# Altium schematic symbol library RC0402.SchLib: 789 symbols (part 6 of 11)
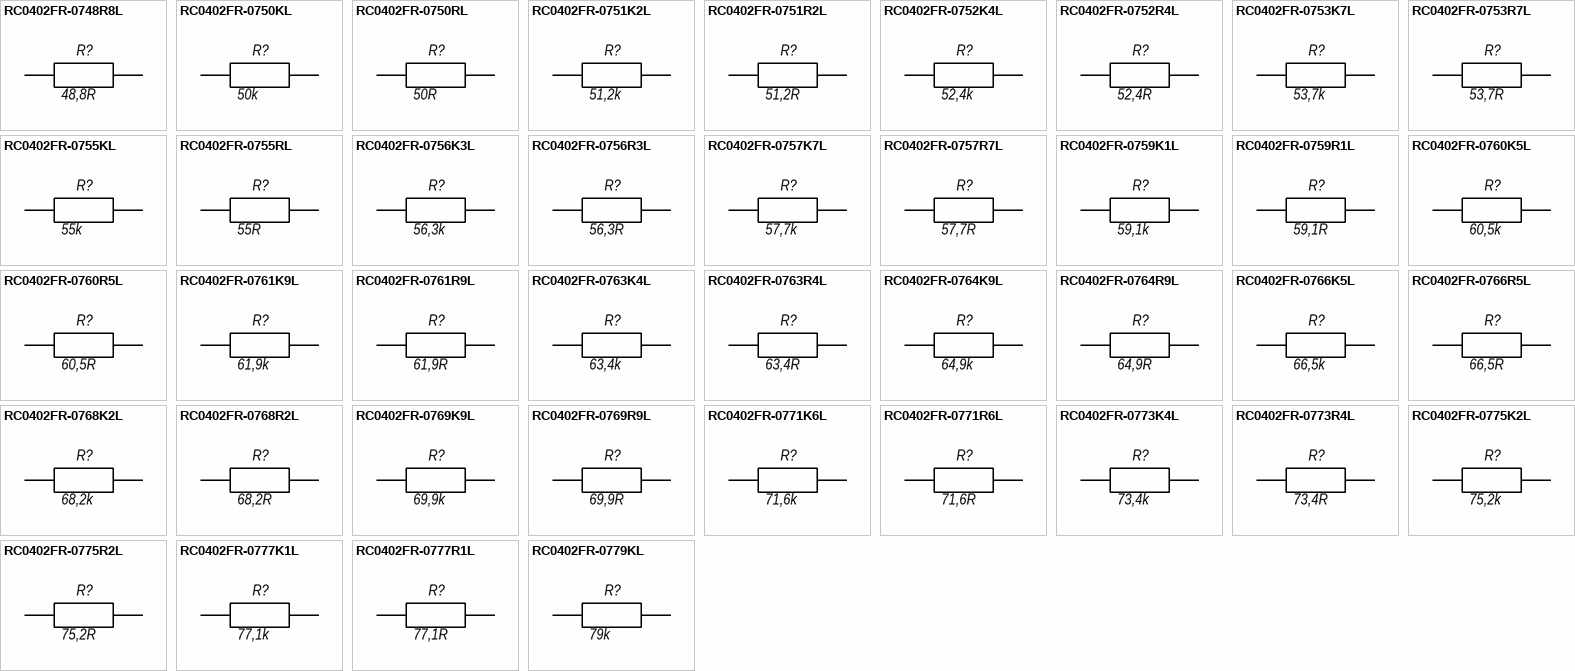
[diagram p24: symbols RC0402FR-0748R8L to RC0402FR-0779KL]

## RC0402FR-0768K2L
designator R?, comment 68,2k
RC0402FR-0768K2L 0402 68.2 kOhm ±1% 1/16W 0402 SMD -55C...+155C; Manufacturer: Yageo; BOM2: 68,2 кОм ±1%, 1/16 Вт, SMD 0402, RC0402FR-0768K2L; ValueBOM: RC0402FR-0768K2L   Yageo                            (68,2 кОм ±1%, 1/16 Вт, SMD 0402, RC0402FR-0768K2L); Value: 68,2k; Part Number: RC0402FR-0768K2L; Package: 0402; BOM1: 68.2 kOhm ±1% 1/16W 0402 SMD
footprint RESC_0402_1005L (Chip Resistor, Body 1.1x0.5mm, IPC High Density)
footprint RESC_0402_1005M (Chip Resistor, Body 1.1x0.5mm, IPC Low Density)
footprint RESC_0402_1005N (Chip Resistor, Body 1.1x0.5mm, IPC Medium Density)
pins: 1, 2

## RC0402FR-0768R2L
designator R?, comment 68,2R
RC0402FR-0768R2L 0402 68.2 Ohm ±1% 1/16W 0402 SMD -55C...+155C; Manufacturer: Yageo; BOM2: 68,2 Ом ±1%, 1/16 Вт, SMD 0402, RC0402FR-0768R2L; ValueBOM: RC0402FR-0768R2L   Yageo                            (68,2 Ом ±1%, 1/16 Вт, SMD 0402, RC0402FR-0768R2L); Value: 68,2R; Part Number: RC0402FR-0768R2L; Package: 0402; BOM1: 68.2 Ohm ±1% 1/16W 0402 SMD
footprint RESC_0402_1005L (Chip Resistor, Body 1.1x0.5mm, IPC High Density)
footprint RESC_0402_1005M (Chip Resistor, Body 1.1x0.5mm, IPC Low Density)
footprint RESC_0402_1005N (Chip Resistor, Body 1.1x0.5mm, IPC Medium Density)
pins: 1, 2

## RC0402FR-0769K9L
designator R?, comment 69,9k
RC0402FR-0769K9L 0402 69.9 kOhm ±1% 1/16W 0402 SMD -55C...+155C; Manufacturer: Yageo; BOM2: 69,9 кОм ±1%, 1/16 Вт, SMD 0402, RC0402FR-0769K9L; ValueBOM: RC0402FR-0769K9L   Yageo                            (69,9 кОм ±1%, 1/16 Вт, SMD 0402, RC0402FR-0769K9L); Value: 69,9k; Part Number: RC0402FR-0769K9L; Package: 0402; BOM1: 69.9 kOhm ±1% 1/16W 0402 SMD
footprint RESC_0402_1005L (Chip Resistor, Body 1.1x0.5mm, IPC High Density)
footprint RESC_0402_1005M (Chip Resistor, Body 1.1x0.5mm, IPC Low Density)
footprint RESC_0402_1005N (Chip Resistor, Body 1.1x0.5mm, IPC Medium Density)
pins: 1, 2

## RC0402FR-0769R9L
designator R?, comment 69,9R
RC0402FR-0769R9L 0402 69.9 Ohm ±1% 1/16W 0402 SMD -55C...+155C; Manufacturer: Yageo; BOM2: 69,9 Ом ±1%, 1/16 Вт, SMD 0402, RC0402FR-0769R9L; ValueBOM: RC0402FR-0769R9L   Yageo                            (69,9 Ом ±1%, 1/16 Вт, SMD 0402, RC0402FR-0769R9L); Value: 69,9R; Part Number: RC0402FR-0769R9L; Package: 0402; BOM1: 69.9 Ohm ±1% 1/16W 0402 SMD
footprint RESC_0402_1005L (Chip Resistor, Body 1.1x0.5mm, IPC High Density)
footprint RESC_0402_1005M (Chip Resistor, Body 1.1x0.5mm, IPC Low Density)
footprint RESC_0402_1005N (Chip Resistor, Body 1.1x0.5mm, IPC Medium Density)
pins: 1, 2

## RC0402FR-0771K6L
designator R?, comment 71,6k
RC0402FR-0771K6L 0402 71.6 kOhm ±1% 1/16W 0402 SMD -55C...+155C; Manufacturer: Yageo; BOM2: 71,6 кОм ±1%, 1/16 Вт, SMD 0402, RC0402FR-0771K6L; ValueBOM: RC0402FR-0771K6L   Yageo                            (71,6 кОм ±1%, 1/16 Вт, SMD 0402, RC0402FR-0771K6L); Value: 71,6k; Part Number: RC0402FR-0771K6L; Package: 0402; BOM1: 71.6 kOhm ±1% 1/16W 0402 SMD
footprint RESC_0402_1005L (Chip Resistor, Body 1.1x0.5mm, IPC High Density)
footprint RESC_0402_1005M (Chip Resistor, Body 1.1x0.5mm, IPC Low Density)
footprint RESC_0402_1005N (Chip Resistor, Body 1.1x0.5mm, IPC Medium Density)
pins: 1, 2

## RC0402FR-0771R6L
designator R?, comment 71,6R
RC0402FR-0771R6L 0402 71.6 Ohm ±1% 1/16W 0402 SMD -55C...+155C; Manufacturer: Yageo; BOM2: 71,6 Ом ±1%, 1/16 Вт, SMD 0402, RC0402FR-0771R6L; ValueBOM: RC0402FR-0771R6L   Yageo                            (71,6 Ом ±1%, 1/16 Вт, SMD 0402, RC0402FR-0771R6L); Value: 71,6R; Part Number: RC0402FR-0771R6L; Package: 0402; BOM1: 71.6 Ohm ±1% 1/16W 0402 SMD
footprint RESC_0402_1005L (Chip Resistor, Body 1.1x0.5mm, IPC High Density)
footprint RESC_0402_1005M (Chip Resistor, Body 1.1x0.5mm, IPC Low Density)
footprint RESC_0402_1005N (Chip Resistor, Body 1.1x0.5mm, IPC Medium Density)
pins: 1, 2

## RC0402FR-0773K4L
designator R?, comment 73,4k
RC0402FR-0773K4L 0402 73.4 kOhm ±1% 1/16W 0402 SMD -55C...+155C; Manufacturer: Yageo; BOM2: 73,4 кОм ±1%, 1/16 Вт, SMD 0402, RC0402FR-0773K4L; ValueBOM: RC0402FR-0773K4L   Yageo                            (73,4 кОм ±1%, 1/16 Вт, SMD 0402, RC0402FR-0773K4L); Value: 73,4k; Part Number: RC0402FR-0773K4L; Package: 0402; BOM1: 73.4 kOhm ±1% 1/16W 0402 SMD
footprint RESC_0402_1005L (Chip Resistor, Body 1.1x0.5mm, IPC High Density)
footprint RESC_0402_1005M (Chip Resistor, Body 1.1x0.5mm, IPC Low Density)
footprint RESC_0402_1005N (Chip Resistor, Body 1.1x0.5mm, IPC Medium Density)
pins: 1, 2

## RC0402FR-0773R4L
designator R?, comment 73,4R
RC0402FR-0773R4L 0402 73.4 Ohm ±1% 1/16W 0402 SMD -55C...+155C; Manufacturer: Yageo; BOM2: 73,4 Ом ±1%, 1/16 Вт, SMD 0402, RC0402FR-0773R4L; ValueBOM: RC0402FR-0773R4L   Yageo                            (73,4 Ом ±1%, 1/16 Вт, SMD 0402, RC0402FR-0773R4L); Value: 73,4R; Part Number: RC0402FR-0773R4L; Package: 0402; BOM1: 73.4 Ohm ±1% 1/16W 0402 SMD
footprint RESC_0402_1005L (Chip Resistor, Body 1.1x0.5mm, IPC High Density)
footprint RESC_0402_1005M (Chip Resistor, Body 1.1x0.5mm, IPC Low Density)
footprint RESC_0402_1005N (Chip Resistor, Body 1.1x0.5mm, IPC Medium Density)
pins: 1, 2

## RC0402FR-0775K2L
designator R?, comment 75,2k
RC0402FR-0775K2L 0402 75.2 kOhm ±1% 1/16W 0402 SMD -55C...+155C; Manufacturer: Yageo; BOM2: 75,2 кОм ±1%, 1/16 Вт, SMD 0402, RC0402FR-0775K2L; ValueBOM: RC0402FR-0775K2L   Yageo                            (75,2 кОм ±1%, 1/16 Вт, SMD 0402, RC0402FR-0775K2L); Value: 75,2k; Part Number: RC0402FR-0775K2L; Package: 0402; BOM1: 75.2 kOhm ±1% 1/16W 0402 SMD
footprint RESC_0402_1005L (Chip Resistor, Body 1.1x0.5mm, IPC High Density)
footprint RESC_0402_1005M (Chip Resistor, Body 1.1x0.5mm, IPC Low Density)
footprint RESC_0402_1005N (Chip Resistor, Body 1.1x0.5mm, IPC Medium Density)
pins: 1, 2

## RC0402FR-0775R2L
designator R?, comment 75,2R
RC0402FR-0775R2L 0402 75.2 Ohm ±1% 1/16W 0402 SMD -55C...+155C; Manufacturer: Yageo; BOM2: 75,2 Ом ±1%, 1/16 Вт, SMD 0402, RC0402FR-0775R2L; ValueBOM: RC0402FR-0775R2L   Yageo                            (75,2 Ом ±1%, 1/16 Вт, SMD 0402, RC0402FR-0775R2L); Value: 75,2R; Part Number: RC0402FR-0775R2L; Package: 0402; BOM1: 75.2 Ohm ±1% 1/16W 0402 SMD
footprint RESC_0402_1005L (Chip Resistor, Body 1.1x0.5mm, IPC High Density)
footprint RESC_0402_1005M (Chip Resistor, Body 1.1x0.5mm, IPC Low Density)
footprint RESC_0402_1005N (Chip Resistor, Body 1.1x0.5mm, IPC Medium Density)
pins: 1, 2

## RC0402FR-0777K1L
designator R?, comment 77,1k
RC0402FR-0777K1L 0402 77.1 kOhm ±1% 1/16W 0402 SMD -55C...+155C; Manufacturer: Yageo; BOM2: 77,1 кОм ±1%, 1/16 Вт, SMD 0402, RC0402FR-0777K1L; ValueBOM: RC0402FR-0777K1L   Yageo                            (77,1 кОм ±1%, 1/16 Вт, SMD 0402, RC0402FR-0777K1L); Value: 77,1k; Part Number: RC0402FR-0777K1L; Package: 0402; BOM1: 77.1 kOhm ±1% 1/16W 0402 SMD
footprint RESC_0402_1005L (Chip Resistor, Body 1.1x0.5mm, IPC High Density)
footprint RESC_0402_1005M (Chip Resistor, Body 1.1x0.5mm, IPC Low Density)
footprint RESC_0402_1005N (Chip Resistor, Body 1.1x0.5mm, IPC Medium Density)
pins: 1, 2

## RC0402FR-0777R1L
designator R?, comment 77,1R
RC0402FR-0777R1L 0402 77.1 Ohm ±1% 1/16W 0402 SMD -55C...+155C; Manufacturer: Yageo; BOM2: 77,1 Ом ±1%, 1/16 Вт, SMD 0402, RC0402FR-0777R1L; ValueBOM: RC0402FR-0777R1L   Yageo                            (77,1 Ом ±1%, 1/16 Вт, SMD 0402, RC0402FR-0777R1L); Value: 77,1R; Part Number: RC0402FR-0777R1L; Package: 0402; BOM1: 77.1 Ohm ±1% 1/16W 0402 SMD
footprint RESC_0402_1005L (Chip Resistor, Body 1.1x0.5mm, IPC High Density)
footprint RESC_0402_1005M (Chip Resistor, Body 1.1x0.5mm, IPC Low Density)
footprint RESC_0402_1005N (Chip Resistor, Body 1.1x0.5mm, IPC Medium Density)
pins: 1, 2

## RC0402FR-0779KL
designator R?, comment 79k
RC0402FR-0779KL 0402 79 kOhm ±1% 1/16W 0402 SMD -55C...+155C; Manufacturer: Yageo; BOM2: 79 кОм ±1%, 1/16 Вт, SMD 0402, RC0402FR-0779KL; ValueBOM: RC0402FR-0779KL   Yageo                            (79 кОм ±1%, 1/16 Вт, SMD 0402, RC0402FR-0779KL); Value: 79k; Part Number: RC0402FR-0779KL; Package: 0402; BOM1: 79 kOhm ±1% 1/16W 0402 SMD
footprint RESC_0402_1005L (Chip Resistor, Body 1.1x0.5mm, IPC High Density)
footprint RESC_0402_1005M (Chip Resistor, Body 1.1x0.5mm, IPC Low Density)
footprint RESC_0402_1005N (Chip Resistor, Body 1.1x0.5mm, IPC Medium Density)
pins: 1, 2

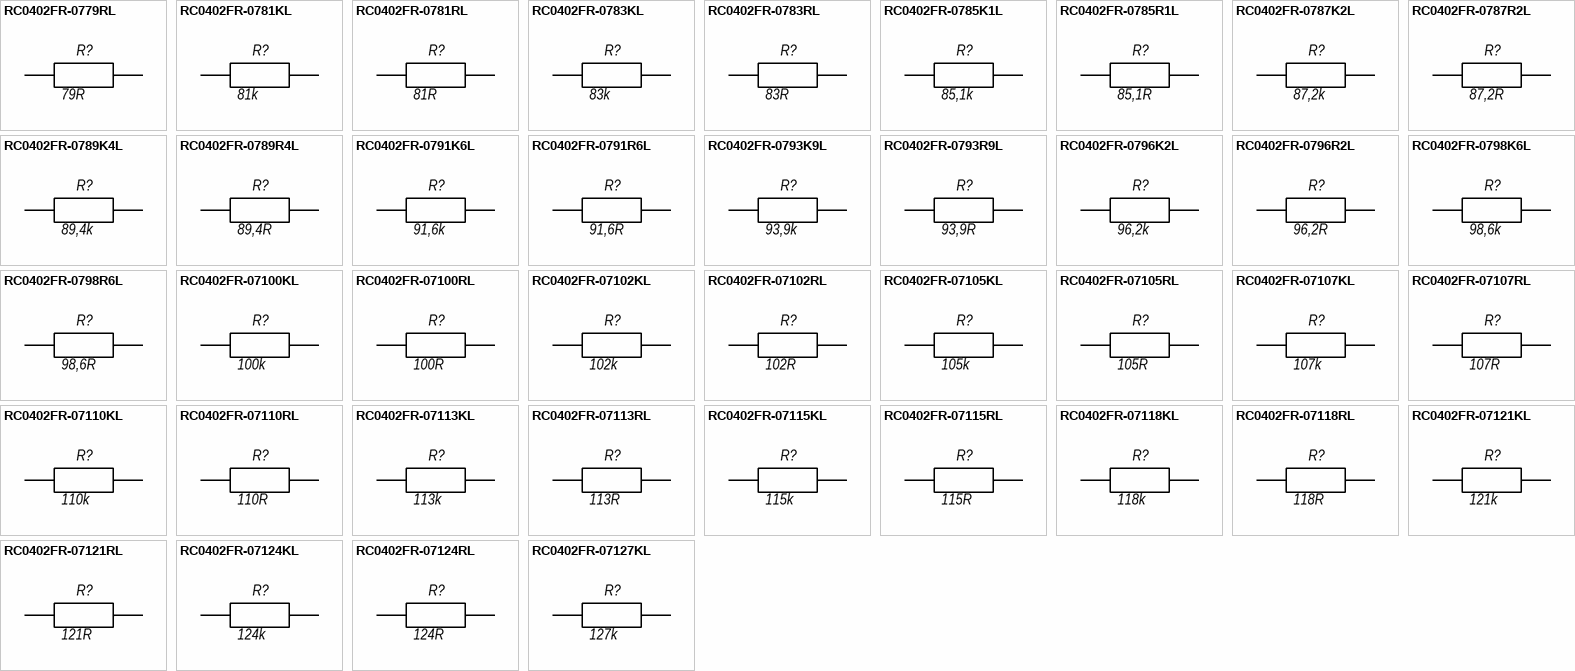
[diagram p10: symbols RC0402FR-0779RL to RC0402FR-07127KL]

## RC0402FR-0779RL
designator R?, comment 79R
RC0402FR-0779RL 0402 79 Ohm ±1% 1/16W 0402 SMD -55C...+155C; Manufacturer: Yageo; BOM2: 79 Ом ±1%, 1/16 Вт, SMD 0402, RC0402FR-0779RL; ValueBOM: RC0402FR-0779RL   Yageo                            (79 Ом ±1%, 1/16 Вт, SMD 0402, RC0402FR-0779RL); Value: 79R; Part Number: RC0402FR-0779RL; Package: 0402; BOM1: 79 Ohm ±1% 1/16W 0402 SMD
footprint RESC_0402_1005L (Chip Resistor, Body 1.1x0.5mm, IPC High Density)
footprint RESC_0402_1005M (Chip Resistor, Body 1.1x0.5mm, IPC Low Density)
footprint RESC_0402_1005N (Chip Resistor, Body 1.1x0.5mm, IPC Medium Density)
pins: 1, 2

## RC0402FR-0781KL
designator R?, comment 81k
RC0402FR-0781KL 0402 81 kOhm ±1% 1/16W 0402 SMD -55C...+155C; Manufacturer: Yageo; BOM2: 81 кОм ±1%, 1/16 Вт, SMD 0402, RC0402FR-0781KL; ValueBOM: RC0402FR-0781KL   Yageo                            (81 кОм ±1%, 1/16 Вт, SMD 0402, RC0402FR-0781KL); Value: 81k; Part Number: RC0402FR-0781KL; Package: 0402; BOM1: 81 kOhm ±1% 1/16W 0402 SMD
footprint RESC_0402_1005L (Chip Resistor, Body 1.1x0.5mm, IPC High Density)
footprint RESC_0402_1005M (Chip Resistor, Body 1.1x0.5mm, IPC Low Density)
footprint RESC_0402_1005N (Chip Resistor, Body 1.1x0.5mm, IPC Medium Density)
pins: 1, 2

## RC0402FR-0781RL
designator R?, comment 81R
RC0402FR-0781RL 0402 81 Ohm ±1% 1/16W 0402 SMD -55C...+155C; Manufacturer: Yageo; BOM2: 81 Ом ±1%, 1/16 Вт, SMD 0402, RC0402FR-0781RL; ValueBOM: RC0402FR-0781RL   Yageo                            (81 Ом ±1%, 1/16 Вт, SMD 0402, RC0402FR-0781RL); Value: 81R; Part Number: RC0402FR-0781RL; Package: 0402; BOM1: 81 Ohm ±1% 1/16W 0402 SMD
footprint RESC_0402_1005L (Chip Resistor, Body 1.1x0.5mm, IPC High Density)
footprint RESC_0402_1005M (Chip Resistor, Body 1.1x0.5mm, IPC Low Density)
footprint RESC_0402_1005N (Chip Resistor, Body 1.1x0.5mm, IPC Medium Density)
pins: 1, 2

## RC0402FR-0783KL
designator R?, comment 83k
RC0402FR-0783KL 0402 83 kOhm ±1% 1/16W 0402 SMD -55C...+155C; Manufacturer: Yageo; BOM2: 83 кОм ±1%, 1/16 Вт, SMD 0402, RC0402FR-0783KL; ValueBOM: RC0402FR-0783KL   Yageo                            (83 кОм ±1%, 1/16 Вт, SMD 0402, RC0402FR-0783KL); Value: 83k; Part Number: RC0402FR-0783KL; Package: 0402; BOM1: 83 kOhm ±1% 1/16W 0402 SMD
footprint RESC_0402_1005L (Chip Resistor, Body 1.1x0.5mm, IPC High Density)
footprint RESC_0402_1005M (Chip Resistor, Body 1.1x0.5mm, IPC Low Density)
footprint RESC_0402_1005N (Chip Resistor, Body 1.1x0.5mm, IPC Medium Density)
pins: 1, 2

## RC0402FR-0783RL
designator R?, comment 83R
RC0402FR-0783RL 0402 83 Ohm ±1% 1/16W 0402 SMD -55C...+155C; Manufacturer: Yageo; BOM2: 83 Ом ±1%, 1/16 Вт, SMD 0402, RC0402FR-0783RL; ValueBOM: RC0402FR-0783RL   Yageo                            (83 Ом ±1%, 1/16 Вт, SMD 0402, RC0402FR-0783RL); Value: 83R; Part Number: RC0402FR-0783RL; Package: 0402; BOM1: 83 Ohm ±1% 1/16W 0402 SMD
footprint RESC_0402_1005L (Chip Resistor, Body 1.1x0.5mm, IPC High Density)
footprint RESC_0402_1005M (Chip Resistor, Body 1.1x0.5mm, IPC Low Density)
footprint RESC_0402_1005N (Chip Resistor, Body 1.1x0.5mm, IPC Medium Density)
pins: 1, 2

## RC0402FR-0785K1L
designator R?, comment 85,1k
RC0402FR-0785K1L 0402 85.1 kOhm ±1% 1/16W 0402 SMD -55C...+155C; Manufacturer: Yageo; BOM2: 85,1 кОм ±1%, 1/16 Вт, SMD 0402, RC0402FR-0785K1L; ValueBOM: RC0402FR-0785K1L   Yageo                            (85,1 кОм ±1%, 1/16 Вт, SMD 0402, RC0402FR-0785K1L); Value: 85,1k; Part Number: RC0402FR-0785K1L; Package: 0402; BOM1: 85.1 kOhm ±1% 1/16W 0402 SMD
footprint RESC_0402_1005L (Chip Resistor, Body 1.1x0.5mm, IPC High Density)
footprint RESC_0402_1005M (Chip Resistor, Body 1.1x0.5mm, IPC Low Density)
footprint RESC_0402_1005N (Chip Resistor, Body 1.1x0.5mm, IPC Medium Density)
pins: 1, 2

## RC0402FR-0785R1L
designator R?, comment 85,1R
RC0402FR-0785R1L 0402 85.1 Ohm ±1% 1/16W 0402 SMD -55C...+155C; Manufacturer: Yageo; BOM2: 85,1 Ом ±1%, 1/16 Вт, SMD 0402, RC0402FR-0785R1L; ValueBOM: RC0402FR-0785R1L   Yageo                            (85,1 Ом ±1%, 1/16 Вт, SMD 0402, RC0402FR-0785R1L); Value: 85,1R; Part Number: RC0402FR-0785R1L; Package: 0402; BOM1: 85.1 Ohm ±1% 1/16W 0402 SMD
footprint RESC_0402_1005L (Chip Resistor, Body 1.1x0.5mm, IPC High Density)
footprint RESC_0402_1005M (Chip Resistor, Body 1.1x0.5mm, IPC Low Density)
footprint RESC_0402_1005N (Chip Resistor, Body 1.1x0.5mm, IPC Medium Density)
pins: 1, 2

## RC0402FR-0787K2L
designator R?, comment 87,2k
RC0402FR-0787K2L 0402 87.2 kOhm ±1% 1/16W 0402 SMD -55C...+155C; Manufacturer: Yageo; BOM2: 87,2 кОм ±1%, 1/16 Вт, SMD 0402, RC0402FR-0787K2L; ValueBOM: RC0402FR-0787K2L   Yageo                            (87,2 кОм ±1%, 1/16 Вт, SMD 0402, RC0402FR-0787K2L); Value: 87,2k; Part Number: RC0402FR-0787K2L; Package: 0402; BOM1: 87.2 kOhm ±1% 1/16W 0402 SMD
footprint RESC_0402_1005L (Chip Resistor, Body 1.1x0.5mm, IPC High Density)
footprint RESC_0402_1005M (Chip Resistor, Body 1.1x0.5mm, IPC Low Density)
footprint RESC_0402_1005N (Chip Resistor, Body 1.1x0.5mm, IPC Medium Density)
pins: 1, 2

## RC0402FR-0787R2L
designator R?, comment 87,2R
RC0402FR-0787R2L 0402 87.2 Ohm ±1% 1/16W 0402 SMD -55C...+155C; Manufacturer: Yageo; BOM2: 87,2 Ом ±1%, 1/16 Вт, SMD 0402, RC0402FR-0787R2L; ValueBOM: RC0402FR-0787R2L   Yageo                            (87,2 Ом ±1%, 1/16 Вт, SMD 0402, RC0402FR-0787R2L); Value: 87,2R; Part Number: RC0402FR-0787R2L; Package: 0402; BOM1: 87.2 Ohm ±1% 1/16W 0402 SMD
footprint RESC_0402_1005L (Chip Resistor, Body 1.1x0.5mm, IPC High Density)
footprint RESC_0402_1005M (Chip Resistor, Body 1.1x0.5mm, IPC Low Density)
footprint RESC_0402_1005N (Chip Resistor, Body 1.1x0.5mm, IPC Medium Density)
pins: 1, 2

## RC0402FR-0789K4L
designator R?, comment 89,4k
RC0402FR-0789K4L 0402 89.4 kOhm ±1% 1/16W 0402 SMD -55C...+155C; Manufacturer: Yageo; BOM2: 89,4 кОм ±1%, 1/16 Вт, SMD 0402, RC0402FR-0789K4L; ValueBOM: RC0402FR-0789K4L   Yageo                            (89,4 кОм ±1%, 1/16 Вт, SMD 0402, RC0402FR-0789K4L); Value: 89,4k; Part Number: RC0402FR-0789K4L; Package: 0402; BOM1: 89.4 kOhm ±1% 1/16W 0402 SMD
footprint RESC_0402_1005L (Chip Resistor, Body 1.1x0.5mm, IPC High Density)
footprint RESC_0402_1005M (Chip Resistor, Body 1.1x0.5mm, IPC Low Density)
footprint RESC_0402_1005N (Chip Resistor, Body 1.1x0.5mm, IPC Medium Density)
pins: 1, 2

## RC0402FR-0789R4L
designator R?, comment 89,4R
RC0402FR-0789R4L 0402 89.4 Ohm ±1% 1/16W 0402 SMD -55C...+155C; Manufacturer: Yageo; BOM2: 89,4 Ом ±1%, 1/16 Вт, SMD 0402, RC0402FR-0789R4L; ValueBOM: RC0402FR-0789R4L   Yageo                            (89,4 Ом ±1%, 1/16 Вт, SMD 0402, RC0402FR-0789R4L); Value: 89,4R; Part Number: RC0402FR-0789R4L; Package: 0402; BOM1: 89.4 Ohm ±1% 1/16W 0402 SMD
footprint RESC_0402_1005L (Chip Resistor, Body 1.1x0.5mm, IPC High Density)
footprint RESC_0402_1005M (Chip Resistor, Body 1.1x0.5mm, IPC Low Density)
footprint RESC_0402_1005N (Chip Resistor, Body 1.1x0.5mm, IPC Medium Density)
pins: 1, 2

## RC0402FR-0791K6L
designator R?, comment 91,6k
RC0402FR-0791K6L 0402 91.6 kOhm ±1% 1/16W 0402 SMD -55C...+155C; Manufacturer: Yageo; BOM2: 91,6 кОм ±1%, 1/16 Вт, SMD 0402, RC0402FR-0791K6L; ValueBOM: RC0402FR-0791K6L   Yageo                            (91,6 кОм ±1%, 1/16 Вт, SMD 0402, RC0402FR-0791K6L); Value: 91,6k; Part Number: RC0402FR-0791K6L; Package: 0402; BOM1: 91.6 kOhm ±1% 1/16W 0402 SMD
footprint RESC_0402_1005L (Chip Resistor, Body 1.1x0.5mm, IPC High Density)
footprint RESC_0402_1005M (Chip Resistor, Body 1.1x0.5mm, IPC Low Density)
footprint RESC_0402_1005N (Chip Resistor, Body 1.1x0.5mm, IPC Medium Density)
pins: 1, 2

## RC0402FR-0791R6L
designator R?, comment 91,6R
RC0402FR-0791R6L 0402 91.6 Ohm ±1% 1/16W 0402 SMD -55C...+155C; Manufacturer: Yageo; BOM2: 91,6 Ом ±1%, 1/16 Вт, SMD 0402, RC0402FR-0791R6L; ValueBOM: RC0402FR-0791R6L   Yageo                            (91,6 Ом ±1%, 1/16 Вт, SMD 0402, RC0402FR-0791R6L); Value: 91,6R; Part Number: RC0402FR-0791R6L; Package: 0402; BOM1: 91.6 Ohm ±1% 1/16W 0402 SMD
footprint RESC_0402_1005L (Chip Resistor, Body 1.1x0.5mm, IPC High Density)
footprint RESC_0402_1005M (Chip Resistor, Body 1.1x0.5mm, IPC Low Density)
footprint RESC_0402_1005N (Chip Resistor, Body 1.1x0.5mm, IPC Medium Density)
pins: 1, 2

## RC0402FR-0793K9L
designator R?, comment 93,9k
RC0402FR-0793K9L 0402 93.9 kOhm ±1% 1/16W 0402 SMD -55C...+155C; Manufacturer: Yageo; BOM2: 93,9 кОм ±1%, 1/16 Вт, SMD 0402, RC0402FR-0793K9L; ValueBOM: RC0402FR-0793K9L   Yageo                            (93,9 кОм ±1%, 1/16 Вт, SMD 0402, RC0402FR-0793K9L); Value: 93,9k; Part Number: RC0402FR-0793K9L; Package: 0402; BOM1: 93.9 kOhm ±1% 1/16W 0402 SMD
footprint RESC_0402_1005L (Chip Resistor, Body 1.1x0.5mm, IPC High Density)
footprint RESC_0402_1005M (Chip Resistor, Body 1.1x0.5mm, IPC Low Density)
footprint RESC_0402_1005N (Chip Resistor, Body 1.1x0.5mm, IPC Medium Density)
pins: 1, 2

## RC0402FR-0793R9L
designator R?, comment 93,9R
RC0402FR-0793R9L 0402 93.9 Ohm ±1% 1/16W 0402 SMD -55C...+155C; Manufacturer: Yageo; BOM2: 93,9 Ом ±1%, 1/16 Вт, SMD 0402, RC0402FR-0793R9L; ValueBOM: RC0402FR-0793R9L   Yageo                            (93,9 Ом ±1%, 1/16 Вт, SMD 0402, RC0402FR-0793R9L); Value: 93,9R; Part Number: RC0402FR-0793R9L; Package: 0402; BOM1: 93.9 Ohm ±1% 1/16W 0402 SMD
footprint RESC_0402_1005L (Chip Resistor, Body 1.1x0.5mm, IPC High Density)
footprint RESC_0402_1005M (Chip Resistor, Body 1.1x0.5mm, IPC Low Density)
footprint RESC_0402_1005N (Chip Resistor, Body 1.1x0.5mm, IPC Medium Density)
pins: 1, 2

## RC0402FR-0796K2L
designator R?, comment 96,2k
RC0402FR-0796K2L 0402 96.2 kOhm ±1% 1/16W 0402 SMD -55C...+155C; Manufacturer: Yageo; BOM2: 96,2 кОм ±1%, 1/16 Вт, SMD 0402, RC0402FR-0796K2L; ValueBOM: RC0402FR-0796K2L   Yageo                            (96,2 кОм ±1%, 1/16 Вт, SMD 0402, RC0402FR-0796K2L); Value: 96,2k; Part Number: RC0402FR-0796K2L; Package: 0402; BOM1: 96.2 kOhm ±1% 1/16W 0402 SMD
footprint RESC_0402_1005L (Chip Resistor, Body 1.1x0.5mm, IPC High Density)
footprint RESC_0402_1005M (Chip Resistor, Body 1.1x0.5mm, IPC Low Density)
footprint RESC_0402_1005N (Chip Resistor, Body 1.1x0.5mm, IPC Medium Density)
pins: 1, 2

## RC0402FR-0796R2L
designator R?, comment 96,2R
RC0402FR-0796R2L 0402 96.2 Ohm ±1% 1/16W 0402 SMD -55C...+155C; Manufacturer: Yageo; BOM2: 96,2 Ом ±1%, 1/16 Вт, SMD 0402, RC0402FR-0796R2L; ValueBOM: RC0402FR-0796R2L   Yageo                            (96,2 Ом ±1%, 1/16 Вт, SMD 0402, RC0402FR-0796R2L); Value: 96,2R; Part Number: RC0402FR-0796R2L; Package: 0402; BOM1: 96.2 Ohm ±1% 1/16W 0402 SMD
footprint RESC_0402_1005L (Chip Resistor, Body 1.1x0.5mm, IPC High Density)
footprint RESC_0402_1005M (Chip Resistor, Body 1.1x0.5mm, IPC Low Density)
footprint RESC_0402_1005N (Chip Resistor, Body 1.1x0.5mm, IPC Medium Density)
pins: 1, 2

## RC0402FR-0798K6L
designator R?, comment 98,6k
RC0402FR-0798K6L 0402 98.6 kOhm ±1% 1/16W 0402 SMD -55C...+155C; Manufacturer: Yageo; BOM2: 98,6 кОм ±1%, 1/16 Вт, SMD 0402, RC0402FR-0798K6L; ValueBOM: RC0402FR-0798K6L   Yageo                            (98,6 кОм ±1%, 1/16 Вт, SMD 0402, RC0402FR-0798K6L); Value: 98,6k; Part Number: RC0402FR-0798K6L; Package: 0402; BOM1: 98.6 kOhm ±1% 1/16W 0402 SMD
footprint RESC_0402_1005L (Chip Resistor, Body 1.1x0.5mm, IPC High Density)
footprint RESC_0402_1005M (Chip Resistor, Body 1.1x0.5mm, IPC Low Density)
footprint RESC_0402_1005N (Chip Resistor, Body 1.1x0.5mm, IPC Medium Density)
pins: 1, 2

## RC0402FR-0798R6L
designator R?, comment 98,6R
RC0402FR-0798R6L 0402 98.6 Ohm ±1% 1/16W 0402 SMD -55C...+155C; Manufacturer: Yageo; BOM2: 98,6 Ом ±1%, 1/16 Вт, SMD 0402, RC0402FR-0798R6L; ValueBOM: RC0402FR-0798R6L   Yageo                            (98,6 Ом ±1%, 1/16 Вт, SMD 0402, RC0402FR-0798R6L); Value: 98,6R; Part Number: RC0402FR-0798R6L; Package: 0402; BOM1: 98.6 Ohm ±1% 1/16W 0402 SMD
footprint RESC_0402_1005L (Chip Resistor, Body 1.1x0.5mm, IPC High Density)
footprint RESC_0402_1005M (Chip Resistor, Body 1.1x0.5mm, IPC Low Density)
footprint RESC_0402_1005N (Chip Resistor, Body 1.1x0.5mm, IPC Medium Density)
pins: 1, 2

## RC0402FR-07100KL
designator R?, comment 100k
RC0402FR-07100KL 0402 100 kOhm ±1% 1/16W 0402 SMD -55C...+155C; Manufacturer: Yageo; BOM2: 100 кОм ±1%, 1/16 Вт, SMD 0402, RC0402FR-07100KL; ValueBOM: RC0402FR-07100KL   Yageo                            (100 кОм ±1%, 1/16 Вт, SMD 0402, RC0402FR-07100KL); Value: 100k; Part Number: RC0402FR-07100KL; Package: 0402; BOM1: 100 kOhm ±1% 1/16W 0402 SMD
footprint RESC_0402_1005L (Chip Resistor, Body 1.1x0.5mm, IPC High Density)
footprint RESC_0402_1005M (Chip Resistor, Body 1.1x0.5mm, IPC Low Density)
footprint RESC_0402_1005N (Chip Resistor, Body 1.1x0.5mm, IPC Medium Density)
pins: 1, 2

## RC0402FR-07100RL
designator R?, comment 100R
RC0402FR-07100RL 0402 100 Ohm ±1% 1/16W 0402 SMD -55C...+155C; Manufacturer: Yageo; BOM2: 100 Ом ±1%, 1/16 Вт, SMD 0402, RC0402FR-07100RL; ValueBOM: RC0402FR-07100RL   Yageo                            (100 Ом ±1%, 1/16 Вт, SMD 0402, RC0402FR-07100RL); Value: 100R; Part Number: RC0402FR-07100RL; Package: 0402; BOM1: 100 Ohm ±1% 1/16W 0402 SMD
footprint RESC_0402_1005L (Chip Resistor, Body 1.1x0.5mm, IPC High Density)
footprint RESC_0402_1005M (Chip Resistor, Body 1.1x0.5mm, IPC Low Density)
footprint RESC_0402_1005N (Chip Resistor, Body 1.1x0.5mm, IPC Medium Density)
pins: 1, 2

## RC0402FR-07102KL
designator R?, comment 102k
RC0402FR-07102KL 0402 102 kOhm ±1% 1/16W 0402 SMD -55C...+155C; Manufacturer: Yageo; BOM2: 102 кОм ±1%, 1/16 Вт, SMD 0402, RC0402FR-07102KL; ValueBOM: RC0402FR-07102KL   Yageo                            (102 кОм ±1%, 1/16 Вт, SMD 0402, RC0402FR-07102KL); Value: 102k; Part Number: RC0402FR-07102KL; Package: 0402; BOM1: 102 kOhm ±1% 1/16W 0402 SMD
footprint RESC_0402_1005L (Chip Resistor, Body 1.1x0.5mm, IPC High Density)
footprint RESC_0402_1005M (Chip Resistor, Body 1.1x0.5mm, IPC Low Density)
footprint RESC_0402_1005N (Chip Resistor, Body 1.1x0.5mm, IPC Medium Density)
pins: 1, 2

## RC0402FR-07102RL
designator R?, comment 102R
RC0402FR-07102RL 0402 102 Ohm ±1% 1/16W 0402 SMD -55C...+155C; Manufacturer: Yageo; BOM2: 102 Ом ±1%, 1/16 Вт, SMD 0402, RC0402FR-07102RL; ValueBOM: RC0402FR-07102RL   Yageo                            (102 Ом ±1%, 1/16 Вт, SMD 0402, RC0402FR-07102RL); Value: 102R; Part Number: RC0402FR-07102RL; Package: 0402; BOM1: 102 Ohm ±1% 1/16W 0402 SMD
footprint RESC_0402_1005L (Chip Resistor, Body 1.1x0.5mm, IPC High Density)
footprint RESC_0402_1005M (Chip Resistor, Body 1.1x0.5mm, IPC Low Density)
footprint RESC_0402_1005N (Chip Resistor, Body 1.1x0.5mm, IPC Medium Density)
pins: 1, 2

## RC0402FR-07105KL
designator R?, comment 105k
RC0402FR-07105KL 0402 105 kOhm ±1% 1/16W 0402 SMD -55C...+155C; Manufacturer: Yageo; BOM2: 105 кОм ±1%, 1/16 Вт, SMD 0402, RC0402FR-07105KL; ValueBOM: RC0402FR-07105KL   Yageo                            (105 кОм ±1%, 1/16 Вт, SMD 0402, RC0402FR-07105KL); Value: 105k; Part Number: RC0402FR-07105KL; Package: 0402; BOM1: 105 kOhm ±1% 1/16W 0402 SMD
footprint RESC_0402_1005L (Chip Resistor, Body 1.1x0.5mm, IPC High Density)
footprint RESC_0402_1005M (Chip Resistor, Body 1.1x0.5mm, IPC Low Density)
footprint RESC_0402_1005N (Chip Resistor, Body 1.1x0.5mm, IPC Medium Density)
pins: 1, 2

## RC0402FR-07105RL
designator R?, comment 105R
RC0402FR-07105RL 0402 105 Ohm ±1% 1/16W 0402 SMD -55C...+155C; Manufacturer: Yageo; BOM2: 105 Ом ±1%, 1/16 Вт, SMD 0402, RC0402FR-07105RL; ValueBOM: RC0402FR-07105RL   Yageo                            (105 Ом ±1%, 1/16 Вт, SMD 0402, RC0402FR-07105RL); Value: 105R; Part Number: RC0402FR-07105RL; Package: 0402; BOM1: 105 Ohm ±1% 1/16W 0402 SMD
footprint RESC_0402_1005L (Chip Resistor, Body 1.1x0.5mm, IPC High Density)
footprint RESC_0402_1005M (Chip Resistor, Body 1.1x0.5mm, IPC Low Density)
footprint RESC_0402_1005N (Chip Resistor, Body 1.1x0.5mm, IPC Medium Density)
pins: 1, 2

## RC0402FR-07107KL
designator R?, comment 107k
RC0402FR-07107KL 0402 107 kOhm ±1% 1/16W 0402 SMD -55C...+155C; Manufacturer: Yageo; BOM2: 107 кОм ±1%, 1/16 Вт, SMD 0402, RC0402FR-07107KL; ValueBOM: RC0402FR-07107KL   Yageo                            (107 кОм ±1%, 1/16 Вт, SMD 0402, RC0402FR-07107KL); Value: 107k; Part Number: RC0402FR-07107KL; Package: 0402; BOM1: 107 kOhm ±1% 1/16W 0402 SMD
footprint RESC_0402_1005L (Chip Resistor, Body 1.1x0.5mm, IPC High Density)
footprint RESC_0402_1005M (Chip Resistor, Body 1.1x0.5mm, IPC Low Density)
footprint RESC_0402_1005N (Chip Resistor, Body 1.1x0.5mm, IPC Medium Density)
pins: 1, 2

## RC0402FR-07107RL
designator R?, comment 107R
RC0402FR-07107RL 0402 107 Ohm ±1% 1/16W 0402 SMD -55C...+155C; Manufacturer: Yageo; BOM2: 107 Ом ±1%, 1/16 Вт, SMD 0402, RC0402FR-07107RL; ValueBOM: RC0402FR-07107RL   Yageo                            (107 Ом ±1%, 1/16 Вт, SMD 0402, RC0402FR-07107RL); Value: 107R; Part Number: RC0402FR-07107RL; Package: 0402; BOM1: 107 Ohm ±1% 1/16W 0402 SMD
footprint RESC_0402_1005L (Chip Resistor, Body 1.1x0.5mm, IPC High Density)
footprint RESC_0402_1005M (Chip Resistor, Body 1.1x0.5mm, IPC Low Density)
footprint RESC_0402_1005N (Chip Resistor, Body 1.1x0.5mm, IPC Medium Density)
pins: 1, 2

## RC0402FR-07110KL
designator R?, comment 110k
RC0402FR-07110KL 0402 110 kOhm ±1% 1/16W 0402 SMD -55C...+155C; Manufacturer: Yageo; BOM2: 110 кОм ±1%, 1/16 Вт, SMD 0402, RC0402FR-07110KL; ValueBOM: RC0402FR-07110KL   Yageo                            (110 кОм ±1%, 1/16 Вт, SMD 0402, RC0402FR-07110KL); Value: 110k; Part Number: RC0402FR-07110KL; Package: 0402; BOM1: 110 kOhm ±1% 1/16W 0402 SMD
footprint RESC_0402_1005L (Chip Resistor, Body 1.1x0.5mm, IPC High Density)
footprint RESC_0402_1005M (Chip Resistor, Body 1.1x0.5mm, IPC Low Density)
footprint RESC_0402_1005N (Chip Resistor, Body 1.1x0.5mm, IPC Medium Density)
pins: 1, 2

## RC0402FR-07110RL
designator R?, comment 110R
RC0402FR-07110RL 0402 110 Ohm ±1% 1/16W 0402 SMD -55C...+155C; Manufacturer: Yageo; BOM2: 110 Ом ±1%, 1/16 Вт, SMD 0402, RC0402FR-07110RL; ValueBOM: RC0402FR-07110RL   Yageo                            (110 Ом ±1%, 1/16 Вт, SMD 0402, RC0402FR-07110RL); Value: 110R; Part Number: RC0402FR-07110RL; Package: 0402; BOM1: 110 Ohm ±1% 1/16W 0402 SMD
footprint RESC_0402_1005L (Chip Resistor, Body 1.1x0.5mm, IPC High Density)
footprint RESC_0402_1005M (Chip Resistor, Body 1.1x0.5mm, IPC Low Density)
footprint RESC_0402_1005N (Chip Resistor, Body 1.1x0.5mm, IPC Medium Density)
pins: 1, 2

## RC0402FR-07113KL
designator R?, comment 113k
RC0402FR-07113KL 0402 113 kOhm ±1% 1/16W 0402 SMD -55C...+155C; Manufacturer: Yageo; BOM2: 113 кОм ±1%, 1/16 Вт, SMD 0402, RC0402FR-07113KL; ValueBOM: RC0402FR-07113KL   Yageo                            (113 кОм ±1%, 1/16 Вт, SMD 0402, RC0402FR-07113KL); Value: 113k; Part Number: RC0402FR-07113KL; Package: 0402; BOM1: 113 kOhm ±1% 1/16W 0402 SMD
footprint RESC_0402_1005L (Chip Resistor, Body 1.1x0.5mm, IPC High Density)
footprint RESC_0402_1005M (Chip Resistor, Body 1.1x0.5mm, IPC Low Density)
footprint RESC_0402_1005N (Chip Resistor, Body 1.1x0.5mm, IPC Medium Density)
pins: 1, 2

## RC0402FR-07113RL
designator R?, comment 113R
RC0402FR-07113RL 0402 113 Ohm ±1% 1/16W 0402 SMD -55C...+155C; Manufacturer: Yageo; BOM2: 113 Ом ±1%, 1/16 Вт, SMD 0402, RC0402FR-07113RL; ValueBOM: RC0402FR-07113RL   Yageo                            (113 Ом ±1%, 1/16 Вт, SMD 0402, RC0402FR-07113RL); Value: 113R; Part Number: RC0402FR-07113RL; Package: 0402; BOM1: 113 Ohm ±1% 1/16W 0402 SMD
footprint RESC_0402_1005L (Chip Resistor, Body 1.1x0.5mm, IPC High Density)
footprint RESC_0402_1005M (Chip Resistor, Body 1.1x0.5mm, IPC Low Density)
footprint RESC_0402_1005N (Chip Resistor, Body 1.1x0.5mm, IPC Medium Density)
pins: 1, 2

## RC0402FR-07115KL
designator R?, comment 115k
RC0402FR-07115KL 0402 115 kOhm ±1% 1/16W 0402 SMD -55C...+155C; Manufacturer: Yageo; BOM2: 115 кОм ±1%, 1/16 Вт, SMD 0402, RC0402FR-07115KL; ValueBOM: RC0402FR-07115KL   Yageo                            (115 кОм ±1%, 1/16 Вт, SMD 0402, RC0402FR-07115KL); Value: 115k; Part Number: RC0402FR-07115KL; Package: 0402; BOM1: 115 kOhm ±1% 1/16W 0402 SMD
footprint RESC_0402_1005L (Chip Resistor, Body 1.1x0.5mm, IPC High Density)
footprint RESC_0402_1005M (Chip Resistor, Body 1.1x0.5mm, IPC Low Density)
footprint RESC_0402_1005N (Chip Resistor, Body 1.1x0.5mm, IPC Medium Density)
pins: 1, 2

## RC0402FR-07115RL
designator R?, comment 115R
RC0402FR-07115RL 0402 115 Ohm ±1% 1/16W 0402 SMD -55C...+155C; Manufacturer: Yageo; BOM2: 115 Ом ±1%, 1/16 Вт, SMD 0402, RC0402FR-07115RL; ValueBOM: RC0402FR-07115RL   Yageo                            (115 Ом ±1%, 1/16 Вт, SMD 0402, RC0402FR-07115RL); Value: 115R; Part Number: RC0402FR-07115RL; Package: 0402; BOM1: 115 Ohm ±1% 1/16W 0402 SMD
footprint RESC_0402_1005L (Chip Resistor, Body 1.1x0.5mm, IPC High Density)
footprint RESC_0402_1005M (Chip Resistor, Body 1.1x0.5mm, IPC Low Density)
footprint RESC_0402_1005N (Chip Resistor, Body 1.1x0.5mm, IPC Medium Density)
pins: 1, 2

## RC0402FR-07118KL
designator R?, comment 118k
RC0402FR-07118KL 0402 118 kOhm ±1% 1/16W 0402 SMD -55C...+155C; Manufacturer: Yageo; BOM2: 118 кОм ±1%, 1/16 Вт, SMD 0402, RC0402FR-07118KL; ValueBOM: RC0402FR-07118KL   Yageo                            (118 кОм ±1%, 1/16 Вт, SMD 0402, RC0402FR-07118KL); Value: 118k; Part Number: RC0402FR-07118KL; Package: 0402; BOM1: 118 kOhm ±1% 1/16W 0402 SMD
footprint RESC_0402_1005L (Chip Resistor, Body 1.1x0.5mm, IPC High Density)
footprint RESC_0402_1005M (Chip Resistor, Body 1.1x0.5mm, IPC Low Density)
footprint RESC_0402_1005N (Chip Resistor, Body 1.1x0.5mm, IPC Medium Density)
pins: 1, 2

## RC0402FR-07118RL
designator R?, comment 118R
RC0402FR-07118RL 0402 118 Ohm ±1% 1/16W 0402 SMD -55C...+155C; Manufacturer: Yageo; BOM2: 118 Ом ±1%, 1/16 Вт, SMD 0402, RC0402FR-07118RL; ValueBOM: RC0402FR-07118RL   Yageo                            (118 Ом ±1%, 1/16 Вт, SMD 0402, RC0402FR-07118RL); Value: 118R; Part Number: RC0402FR-07118RL; Package: 0402; BOM1: 118 Ohm ±1% 1/16W 0402 SMD
footprint RESC_0402_1005L (Chip Resistor, Body 1.1x0.5mm, IPC High Density)
footprint RESC_0402_1005M (Chip Resistor, Body 1.1x0.5mm, IPC Low Density)
footprint RESC_0402_1005N (Chip Resistor, Body 1.1x0.5mm, IPC Medium Density)
pins: 1, 2

## RC0402FR-07121KL
designator R?, comment 121k
RC0402FR-07121KL 0402 121 kOhm ±1% 1/16W 0402 SMD -55C...+155C; Manufacturer: Yageo; BOM2: 121 кОм ±1%, 1/16 Вт, SMD 0402, RC0402FR-07121KL; ValueBOM: RC0402FR-07121KL   Yageo                            (121 кОм ±1%, 1/16 Вт, SMD 0402, RC0402FR-07121KL); Value: 121k; Part Number: RC0402FR-07121KL; Package: 0402; BOM1: 121 kOhm ±1% 1/16W 0402 SMD
footprint RESC_0402_1005L (Chip Resistor, Body 1.1x0.5mm, IPC High Density)
footprint RESC_0402_1005M (Chip Resistor, Body 1.1x0.5mm, IPC Low Density)
footprint RESC_0402_1005N (Chip Resistor, Body 1.1x0.5mm, IPC Medium Density)
pins: 1, 2

## RC0402FR-07121RL
designator R?, comment 121R
RC0402FR-07121RL 0402 121 Ohm ±1% 1/16W 0402 SMD -55C...+155C; Manufacturer: Yageo; BOM2: 121 Ом ±1%, 1/16 Вт, SMD 0402, RC0402FR-07121RL; ValueBOM: RC0402FR-07121RL   Yageo                            (121 Ом ±1%, 1/16 Вт, SMD 0402, RC0402FR-07121RL); Value: 121R; Part Number: RC0402FR-07121RL; Package: 0402; BOM1: 121 Ohm ±1% 1/16W 0402 SMD
footprint RESC_0402_1005L (Chip Resistor, Body 1.1x0.5mm, IPC High Density)
footprint RESC_0402_1005M (Chip Resistor, Body 1.1x0.5mm, IPC Low Density)
footprint RESC_0402_1005N (Chip Resistor, Body 1.1x0.5mm, IPC Medium Density)
pins: 1, 2

## RC0402FR-07124KL
designator R?, comment 124k
RC0402FR-07124KL 0402 124 kOhm ±1% 1/16W 0402 SMD -55C...+155C; Manufacturer: Yageo; BOM2: 124 кОм ±1%, 1/16 Вт, SMD 0402, RC0402FR-07124KL; ValueBOM: RC0402FR-07124KL   Yageo                            (124 кОм ±1%, 1/16 Вт, SMD 0402, RC0402FR-07124KL); Value: 124k; Part Number: RC0402FR-07124KL; Package: 0402; BOM1: 124 kOhm ±1% 1/16W 0402 SMD
footprint RESC_0402_1005L (Chip Resistor, Body 1.1x0.5mm, IPC High Density)
footprint RESC_0402_1005M (Chip Resistor, Body 1.1x0.5mm, IPC Low Density)
footprint RESC_0402_1005N (Chip Resistor, Body 1.1x0.5mm, IPC Medium Density)
pins: 1, 2

## RC0402FR-07124RL
designator R?, comment 124R
RC0402FR-07124RL 0402 124 Ohm ±1% 1/16W 0402 SMD -55C...+155C; Manufacturer: Yageo; BOM2: 124 Ом ±1%, 1/16 Вт, SMD 0402, RC0402FR-07124RL; ValueBOM: RC0402FR-07124RL   Yageo                            (124 Ом ±1%, 1/16 Вт, SMD 0402, RC0402FR-07124RL); Value: 124R; Part Number: RC0402FR-07124RL; Package: 0402; BOM1: 124 Ohm ±1% 1/16W 0402 SMD
footprint RESC_0402_1005L (Chip Resistor, Body 1.1x0.5mm, IPC High Density)
footprint RESC_0402_1005M (Chip Resistor, Body 1.1x0.5mm, IPC Low Density)
footprint RESC_0402_1005N (Chip Resistor, Body 1.1x0.5mm, IPC Medium Density)
pins: 1, 2

## RC0402FR-07127KL
designator R?, comment 127k
RC0402FR-07127KL 0402 127 kOhm ±1% 1/16W 0402 SMD -55C...+155C; Manufacturer: Yageo; BOM2: 127 кОм ±1%, 1/16 Вт, SMD 0402, RC0402FR-07127KL; ValueBOM: RC0402FR-07127KL   Yageo                            (127 кОм ±1%, 1/16 Вт, SMD 0402, RC0402FR-07127KL); Value: 127k; Part Number: RC0402FR-07127KL; Package: 0402; BOM1: 127 kOhm ±1% 1/16W 0402 SMD
footprint RESC_0402_1005L (Chip Resistor, Body 1.1x0.5mm, IPC High Density)
footprint RESC_0402_1005M (Chip Resistor, Body 1.1x0.5mm, IPC Low Density)
footprint RESC_0402_1005N (Chip Resistor, Body 1.1x0.5mm, IPC Medium Density)
pins: 1, 2

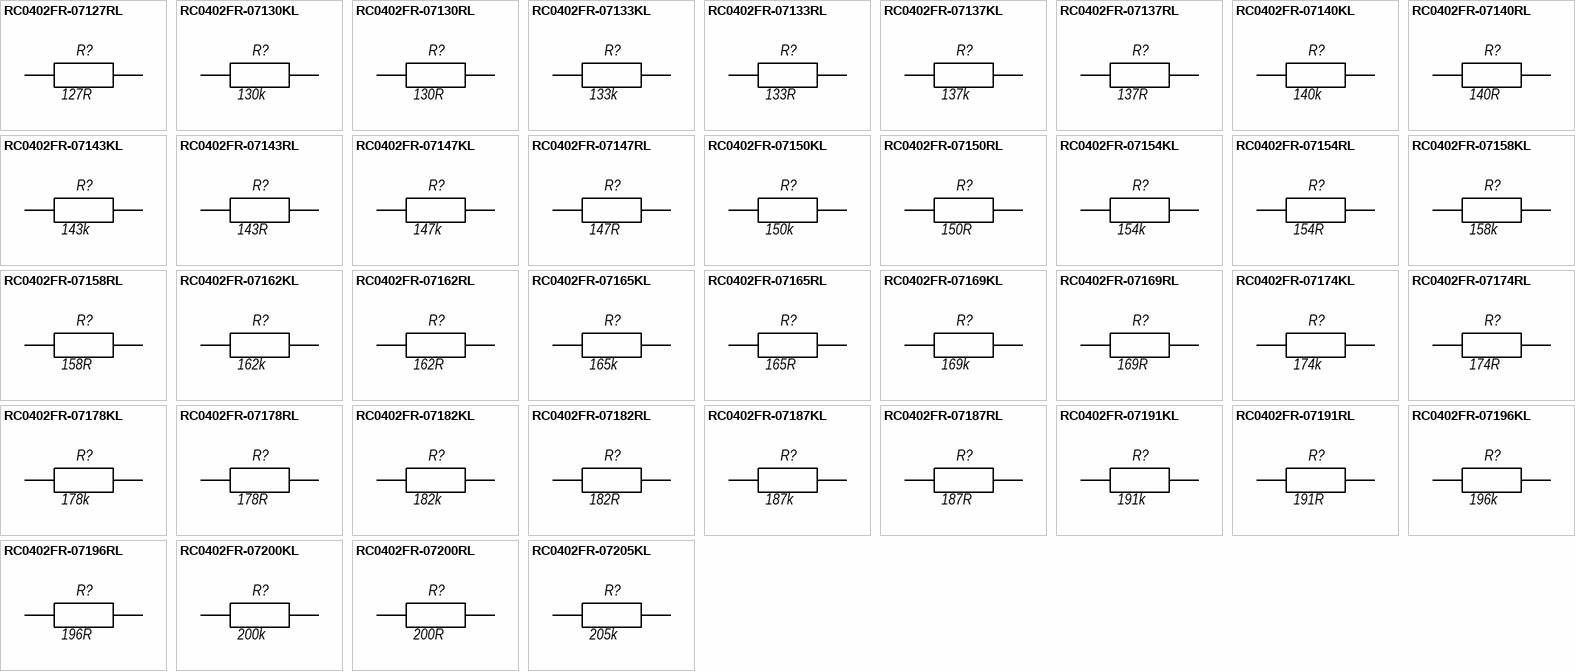
[diagram p11: symbols RC0402FR-07127RL to RC0402FR-07205KL]

## RC0402FR-07127RL
designator R?, comment 127R
RC0402FR-07127RL 0402 127 Ohm ±1% 1/16W 0402 SMD -55C...+155C; Manufacturer: Yageo; BOM2: 127 Ом ±1%, 1/16 Вт, SMD 0402, RC0402FR-07127RL; ValueBOM: RC0402FR-07127RL   Yageo                            (127 Ом ±1%, 1/16 Вт, SMD 0402, RC0402FR-07127RL); Value: 127R; Part Number: RC0402FR-07127RL; Package: 0402; BOM1: 127 Ohm ±1% 1/16W 0402 SMD
footprint RESC_0402_1005L (Chip Resistor, Body 1.1x0.5mm, IPC High Density)
footprint RESC_0402_1005M (Chip Resistor, Body 1.1x0.5mm, IPC Low Density)
footprint RESC_0402_1005N (Chip Resistor, Body 1.1x0.5mm, IPC Medium Density)
pins: 1, 2

## RC0402FR-07130KL
designator R?, comment 130k
RC0402FR-07130KL 0402 130 kOhm ±1% 1/16W 0402 SMD -55C...+155C; Manufacturer: Yageo; BOM2: 130 кОм ±1%, 1/16 Вт, SMD 0402, RC0402FR-07130KL; ValueBOM: RC0402FR-07130KL   Yageo                            (130 кОм ±1%, 1/16 Вт, SMD 0402, RC0402FR-07130KL); Value: 130k; Part Number: RC0402FR-07130KL; Package: 0402; BOM1: 130 kOhm ±1% 1/16W 0402 SMD
footprint RESC_0402_1005L (Chip Resistor, Body 1.1x0.5mm, IPC High Density)
footprint RESC_0402_1005M (Chip Resistor, Body 1.1x0.5mm, IPC Low Density)
footprint RESC_0402_1005N (Chip Resistor, Body 1.1x0.5mm, IPC Medium Density)
pins: 1, 2

## RC0402FR-07130RL
designator R?, comment 130R
RC0402FR-07130RL 0402 130 Ohm ±1% 1/16W 0402 SMD -55C...+155C; Manufacturer: Yageo; BOM2: 130 Ом ±1%, 1/16 Вт, SMD 0402, RC0402FR-07130RL; ValueBOM: RC0402FR-07130RL   Yageo                            (130 Ом ±1%, 1/16 Вт, SMD 0402, RC0402FR-07130RL); Value: 130R; Part Number: RC0402FR-07130RL; Package: 0402; BOM1: 130 Ohm ±1% 1/16W 0402 SMD
footprint RESC_0402_1005L (Chip Resistor, Body 1.1x0.5mm, IPC High Density)
footprint RESC_0402_1005M (Chip Resistor, Body 1.1x0.5mm, IPC Low Density)
footprint RESC_0402_1005N (Chip Resistor, Body 1.1x0.5mm, IPC Medium Density)
pins: 1, 2

## RC0402FR-07133KL
designator R?, comment 133k
RC0402FR-07133KL 0402 133 kOhm ±1% 1/16W 0402 SMD -55C...+155C; Manufacturer: Yageo; BOM2: 133 кОм ±1%, 1/16 Вт, SMD 0402, RC0402FR-07133KL; ValueBOM: RC0402FR-07133KL   Yageo                            (133 кОм ±1%, 1/16 Вт, SMD 0402, RC0402FR-07133KL); Value: 133k; Part Number: RC0402FR-07133KL; Package: 0402; BOM1: 133 kOhm ±1% 1/16W 0402 SMD
footprint RESC_0402_1005L (Chip Resistor, Body 1.1x0.5mm, IPC High Density)
footprint RESC_0402_1005M (Chip Resistor, Body 1.1x0.5mm, IPC Low Density)
footprint RESC_0402_1005N (Chip Resistor, Body 1.1x0.5mm, IPC Medium Density)
pins: 1, 2

## RC0402FR-07133RL
designator R?, comment 133R
RC0402FR-07133RL 0402 133 Ohm ±1% 1/16W 0402 SMD -55C...+155C; Manufacturer: Yageo; BOM2: 133 Ом ±1%, 1/16 Вт, SMD 0402, RC0402FR-07133RL; ValueBOM: RC0402FR-07133RL   Yageo                            (133 Ом ±1%, 1/16 Вт, SMD 0402, RC0402FR-07133RL); Value: 133R; Part Number: RC0402FR-07133RL; Package: 0402; BOM1: 133 Ohm ±1% 1/16W 0402 SMD
footprint RESC_0402_1005L (Chip Resistor, Body 1.1x0.5mm, IPC High Density)
footprint RESC_0402_1005M (Chip Resistor, Body 1.1x0.5mm, IPC Low Density)
footprint RESC_0402_1005N (Chip Resistor, Body 1.1x0.5mm, IPC Medium Density)
pins: 1, 2

## RC0402FR-07137KL
designator R?, comment 137k
RC0402FR-07137KL 0402 137 kOhm ±1% 1/16W 0402 SMD -55C...+155C; Manufacturer: Yageo; BOM2: 137 кОм ±1%, 1/16 Вт, SMD 0402, RC0402FR-07137KL; ValueBOM: RC0402FR-07137KL   Yageo                            (137 кОм ±1%, 1/16 Вт, SMD 0402, RC0402FR-07137KL); Value: 137k; Part Number: RC0402FR-07137KL; Package: 0402; BOM1: 137 kOhm ±1% 1/16W 0402 SMD
footprint RESC_0402_1005L (Chip Resistor, Body 1.1x0.5mm, IPC High Density)
footprint RESC_0402_1005M (Chip Resistor, Body 1.1x0.5mm, IPC Low Density)
footprint RESC_0402_1005N (Chip Resistor, Body 1.1x0.5mm, IPC Medium Density)
pins: 1, 2

## RC0402FR-07137RL
designator R?, comment 137R
RC0402FR-07137RL 0402 137 Ohm ±1% 1/16W 0402 SMD -55C...+155C; Manufacturer: Yageo; BOM2: 137 Ом ±1%, 1/16 Вт, SMD 0402, RC0402FR-07137RL; ValueBOM: RC0402FR-07137RL   Yageo                            (137 Ом ±1%, 1/16 Вт, SMD 0402, RC0402FR-07137RL); Value: 137R; Part Number: RC0402FR-07137RL; Package: 0402; BOM1: 137 Ohm ±1% 1/16W 0402 SMD
footprint RESC_0402_1005L (Chip Resistor, Body 1.1x0.5mm, IPC High Density)
footprint RESC_0402_1005M (Chip Resistor, Body 1.1x0.5mm, IPC Low Density)
footprint RESC_0402_1005N (Chip Resistor, Body 1.1x0.5mm, IPC Medium Density)
pins: 1, 2

## RC0402FR-07140KL
designator R?, comment 140k
RC0402FR-07140KL 0402 140 kOhm ±1% 1/16W 0402 SMD -55C...+155C; Manufacturer: Yageo; BOM2: 140 кОм ±1%, 1/16 Вт, SMD 0402, RC0402FR-07140KL; ValueBOM: RC0402FR-07140KL   Yageo                            (140 кОм ±1%, 1/16 Вт, SMD 0402, RC0402FR-07140KL); Value: 140k; Part Number: RC0402FR-07140KL; Package: 0402; BOM1: 140 kOhm ±1% 1/16W 0402 SMD
footprint RESC_0402_1005L (Chip Resistor, Body 1.1x0.5mm, IPC High Density)
footprint RESC_0402_1005M (Chip Resistor, Body 1.1x0.5mm, IPC Low Density)
footprint RESC_0402_1005N (Chip Resistor, Body 1.1x0.5mm, IPC Medium Density)
pins: 1, 2

## RC0402FR-07140RL
designator R?, comment 140R
RC0402FR-07140RL 0402 140 Ohm ±1% 1/16W 0402 SMD -55C...+155C; Manufacturer: Yageo; BOM2: 140 Ом ±1%, 1/16 Вт, SMD 0402, RC0402FR-07140RL; ValueBOM: RC0402FR-07140RL   Yageo                            (140 Ом ±1%, 1/16 Вт, SMD 0402, RC0402FR-07140RL); Value: 140R; Part Number: RC0402FR-07140RL; Package: 0402; BOM1: 140 Ohm ±1% 1/16W 0402 SMD
footprint RESC_0402_1005L (Chip Resistor, Body 1.1x0.5mm, IPC High Density)
footprint RESC_0402_1005M (Chip Resistor, Body 1.1x0.5mm, IPC Low Density)
footprint RESC_0402_1005N (Chip Resistor, Body 1.1x0.5mm, IPC Medium Density)
pins: 1, 2

## RC0402FR-07143KL
designator R?, comment 143k
RC0402FR-07143KL 0402 143 kOhm ±1% 1/16W 0402 SMD -55C...+155C; Manufacturer: Yageo; BOM2: 143 кОм ±1%, 1/16 Вт, SMD 0402, RC0402FR-07143KL; ValueBOM: RC0402FR-07143KL   Yageo                            (143 кОм ±1%, 1/16 Вт, SMD 0402, RC0402FR-07143KL); Value: 143k; Part Number: RC0402FR-07143KL; Package: 0402; BOM1: 143 kOhm ±1% 1/16W 0402 SMD
footprint RESC_0402_1005L (Chip Resistor, Body 1.1x0.5mm, IPC High Density)
footprint RESC_0402_1005M (Chip Resistor, Body 1.1x0.5mm, IPC Low Density)
footprint RESC_0402_1005N (Chip Resistor, Body 1.1x0.5mm, IPC Medium Density)
pins: 1, 2

## RC0402FR-07143RL
designator R?, comment 143R
RC0402FR-07143RL 0402 143 Ohm ±1% 1/16W 0402 SMD -55C...+155C; Manufacturer: Yageo; BOM2: 143 Ом ±1%, 1/16 Вт, SMD 0402, RC0402FR-07143RL; ValueBOM: RC0402FR-07143RL   Yageo                            (143 Ом ±1%, 1/16 Вт, SMD 0402, RC0402FR-07143RL); Value: 143R; Part Number: RC0402FR-07143RL; Package: 0402; BOM1: 143 Ohm ±1% 1/16W 0402 SMD
footprint RESC_0402_1005L (Chip Resistor, Body 1.1x0.5mm, IPC High Density)
footprint RESC_0402_1005M (Chip Resistor, Body 1.1x0.5mm, IPC Low Density)
footprint RESC_0402_1005N (Chip Resistor, Body 1.1x0.5mm, IPC Medium Density)
pins: 1, 2

## RC0402FR-07147KL
designator R?, comment 147k
RC0402FR-07147KL 0402 147 kOhm ±1% 1/16W 0402 SMD -55C...+155C; Manufacturer: Yageo; BOM2: 147 кОм ±1%, 1/16 Вт, SMD 0402, RC0402FR-07147KL; ValueBOM: RC0402FR-07147KL   Yageo                            (147 кОм ±1%, 1/16 Вт, SMD 0402, RC0402FR-07147KL); Value: 147k; Part Number: RC0402FR-07147KL; Package: 0402; BOM1: 147 kOhm ±1% 1/16W 0402 SMD
footprint RESC_0402_1005L (Chip Resistor, Body 1.1x0.5mm, IPC High Density)
footprint RESC_0402_1005M (Chip Resistor, Body 1.1x0.5mm, IPC Low Density)
footprint RESC_0402_1005N (Chip Resistor, Body 1.1x0.5mm, IPC Medium Density)
pins: 1, 2

## RC0402FR-07147RL
designator R?, comment 147R
RC0402FR-07147RL 0402 147 Ohm ±1% 1/16W 0402 SMD -55C...+155C; Manufacturer: Yageo; BOM2: 147 Ом ±1%, 1/16 Вт, SMD 0402, RC0402FR-07147RL; ValueBOM: RC0402FR-07147RL   Yageo                            (147 Ом ±1%, 1/16 Вт, SMD 0402, RC0402FR-07147RL); Value: 147R; Part Number: RC0402FR-07147RL; Package: 0402; BOM1: 147 Ohm ±1% 1/16W 0402 SMD
footprint RESC_0402_1005L (Chip Resistor, Body 1.1x0.5mm, IPC High Density)
footprint RESC_0402_1005M (Chip Resistor, Body 1.1x0.5mm, IPC Low Density)
footprint RESC_0402_1005N (Chip Resistor, Body 1.1x0.5mm, IPC Medium Density)
pins: 1, 2

## RC0402FR-07150KL
designator R?, comment 150k
RC0402FR-07150KL 0402 150 kOhm ±1% 1/16W 0402 SMD -55C...+155C; Manufacturer: Yageo; BOM2: 150 кОм ±1%, 1/16 Вт, SMD 0402, RC0402FR-07150KL; ValueBOM: RC0402FR-07150KL   Yageo                            (150 кОм ±1%, 1/16 Вт, SMD 0402, RC0402FR-07150KL); Value: 150k; Part Number: RC0402FR-07150KL; Package: 0402; BOM1: 150 kOhm ±1% 1/16W 0402 SMD
footprint RESC_0402_1005L (Chip Resistor, Body 1.1x0.5mm, IPC High Density)
footprint RESC_0402_1005M (Chip Resistor, Body 1.1x0.5mm, IPC Low Density)
footprint RESC_0402_1005N (Chip Resistor, Body 1.1x0.5mm, IPC Medium Density)
pins: 1, 2

## RC0402FR-07150RL
designator R?, comment 150R
RC0402FR-07150RL 0402 150 Ohm ±1% 1/16W 0402 SMD -55C...+155C; Manufacturer: Yageo; BOM2: 150 Ом ±1%, 1/16 Вт, SMD 0402, RC0402FR-07150RL; ValueBOM: RC0402FR-07150RL   Yageo                            (150 Ом ±1%, 1/16 Вт, SMD 0402, RC0402FR-07150RL); Value: 150R; Part Number: RC0402FR-07150RL; Package: 0402; BOM1: 150 Ohm ±1% 1/16W 0402 SMD
footprint RESC_0402_1005L (Chip Resistor, Body 1.1x0.5mm, IPC High Density)
footprint RESC_0402_1005M (Chip Resistor, Body 1.1x0.5mm, IPC Low Density)
footprint RESC_0402_1005N (Chip Resistor, Body 1.1x0.5mm, IPC Medium Density)
pins: 1, 2

## RC0402FR-07154KL
designator R?, comment 154k
RC0402FR-07154KL 0402 154 kOhm ±1% 1/16W 0402 SMD -55C...+155C; Manufacturer: Yageo; BOM2: 154 кОм ±1%, 1/16 Вт, SMD 0402, RC0402FR-07154KL; ValueBOM: RC0402FR-07154KL   Yageo                            (154 кОм ±1%, 1/16 Вт, SMD 0402, RC0402FR-07154KL); Value: 154k; Part Number: RC0402FR-07154KL; Package: 0402; BOM1: 154 kOhm ±1% 1/16W 0402 SMD
footprint RESC_0402_1005L (Chip Resistor, Body 1.1x0.5mm, IPC High Density)
footprint RESC_0402_1005M (Chip Resistor, Body 1.1x0.5mm, IPC Low Density)
footprint RESC_0402_1005N (Chip Resistor, Body 1.1x0.5mm, IPC Medium Density)
pins: 1, 2

## RC0402FR-07154RL
designator R?, comment 154R
RC0402FR-07154RL 0402 154 Ohm ±1% 1/16W 0402 SMD -55C...+155C; Manufacturer: Yageo; BOM2: 154 Ом ±1%, 1/16 Вт, SMD 0402, RC0402FR-07154RL; ValueBOM: RC0402FR-07154RL   Yageo                            (154 Ом ±1%, 1/16 Вт, SMD 0402, RC0402FR-07154RL); Value: 154R; Part Number: RC0402FR-07154RL; Package: 0402; BOM1: 154 Ohm ±1% 1/16W 0402 SMD
footprint RESC_0402_1005L (Chip Resistor, Body 1.1x0.5mm, IPC High Density)
footprint RESC_0402_1005M (Chip Resistor, Body 1.1x0.5mm, IPC Low Density)
footprint RESC_0402_1005N (Chip Resistor, Body 1.1x0.5mm, IPC Medium Density)
pins: 1, 2

## RC0402FR-07158KL
designator R?, comment 158k
RC0402FR-07158KL 0402 158 kOhm ±1% 1/16W 0402 SMD -55C...+155C; Manufacturer: Yageo; BOM2: 158 кОм ±1%, 1/16 Вт, SMD 0402, RC0402FR-07158KL; ValueBOM: RC0402FR-07158KL   Yageo                            (158 кОм ±1%, 1/16 Вт, SMD 0402, RC0402FR-07158KL); Value: 158k; Part Number: RC0402FR-07158KL; Package: 0402; BOM1: 158 kOhm ±1% 1/16W 0402 SMD
footprint RESC_0402_1005L (Chip Resistor, Body 1.1x0.5mm, IPC High Density)
footprint RESC_0402_1005M (Chip Resistor, Body 1.1x0.5mm, IPC Low Density)
footprint RESC_0402_1005N (Chip Resistor, Body 1.1x0.5mm, IPC Medium Density)
pins: 1, 2

## RC0402FR-07158RL
designator R?, comment 158R
RC0402FR-07158RL 0402 158 Ohm ±1% 1/16W 0402 SMD -55C...+155C; Manufacturer: Yageo; BOM2: 158 Ом ±1%, 1/16 Вт, SMD 0402, RC0402FR-07158RL; ValueBOM: RC0402FR-07158RL   Yageo                            (158 Ом ±1%, 1/16 Вт, SMD 0402, RC0402FR-07158RL); Value: 158R; Part Number: RC0402FR-07158RL; Package: 0402; BOM1: 158 Ohm ±1% 1/16W 0402 SMD
footprint RESC_0402_1005L (Chip Resistor, Body 1.1x0.5mm, IPC High Density)
footprint RESC_0402_1005M (Chip Resistor, Body 1.1x0.5mm, IPC Low Density)
footprint RESC_0402_1005N (Chip Resistor, Body 1.1x0.5mm, IPC Medium Density)
pins: 1, 2

## RC0402FR-07162KL
designator R?, comment 162k
RC0402FR-07162KL 0402 162 kOhm ±1% 1/16W 0402 SMD -55C...+155C; Manufacturer: Yageo; BOM2: 162 кОм ±1%, 1/16 Вт, SMD 0402, RC0402FR-07162KL; ValueBOM: RC0402FR-07162KL   Yageo                            (162 кОм ±1%, 1/16 Вт, SMD 0402, RC0402FR-07162KL); Value: 162k; Part Number: RC0402FR-07162KL; Package: 0402; BOM1: 162 kOhm ±1% 1/16W 0402 SMD
footprint RESC_0402_1005L (Chip Resistor, Body 1.1x0.5mm, IPC High Density)
footprint RESC_0402_1005M (Chip Resistor, Body 1.1x0.5mm, IPC Low Density)
footprint RESC_0402_1005N (Chip Resistor, Body 1.1x0.5mm, IPC Medium Density)
pins: 1, 2

## RC0402FR-07162RL
designator R?, comment 162R
RC0402FR-07162RL 0402 162 Ohm ±1% 1/16W 0402 SMD -55C...+155C; Manufacturer: Yageo; BOM2: 162 Ом ±1%, 1/16 Вт, SMD 0402, RC0402FR-07162RL; ValueBOM: RC0402FR-07162RL   Yageo                            (162 Ом ±1%, 1/16 Вт, SMD 0402, RC0402FR-07162RL); Value: 162R; Part Number: RC0402FR-07162RL; Package: 0402; BOM1: 162 Ohm ±1% 1/16W 0402 SMD
footprint RESC_0402_1005L (Chip Resistor, Body 1.1x0.5mm, IPC High Density)
footprint RESC_0402_1005M (Chip Resistor, Body 1.1x0.5mm, IPC Low Density)
footprint RESC_0402_1005N (Chip Resistor, Body 1.1x0.5mm, IPC Medium Density)
pins: 1, 2

## RC0402FR-07165KL
designator R?, comment 165k
RC0402FR-07165KL 0402 165 kOhm ±1% 1/16W 0402 SMD -55C...+155C; Manufacturer: Yageo; BOM2: 165 кОм ±1%, 1/16 Вт, SMD 0402, RC0402FR-07165KL; ValueBOM: RC0402FR-07165KL   Yageo                            (165 кОм ±1%, 1/16 Вт, SMD 0402, RC0402FR-07165KL); Value: 165k; Part Number: RC0402FR-07165KL; Package: 0402; BOM1: 165 kOhm ±1% 1/16W 0402 SMD
footprint RESC_0402_1005L (Chip Resistor, Body 1.1x0.5mm, IPC High Density)
footprint RESC_0402_1005M (Chip Resistor, Body 1.1x0.5mm, IPC Low Density)
footprint RESC_0402_1005N (Chip Resistor, Body 1.1x0.5mm, IPC Medium Density)
pins: 1, 2

## RC0402FR-07165RL
designator R?, comment 165R
RC0402FR-07165RL 0402 165 Ohm ±1% 1/16W 0402 SMD -55C...+155C; Manufacturer: Yageo; BOM2: 165 Ом ±1%, 1/16 Вт, SMD 0402, RC0402FR-07165RL; ValueBOM: RC0402FR-07165RL   Yageo                            (165 Ом ±1%, 1/16 Вт, SMD 0402, RC0402FR-07165RL); Value: 165R; Part Number: RC0402FR-07165RL; Package: 0402; BOM1: 165 Ohm ±1% 1/16W 0402 SMD
footprint RESC_0402_1005L (Chip Resistor, Body 1.1x0.5mm, IPC High Density)
footprint RESC_0402_1005M (Chip Resistor, Body 1.1x0.5mm, IPC Low Density)
footprint RESC_0402_1005N (Chip Resistor, Body 1.1x0.5mm, IPC Medium Density)
pins: 1, 2

## RC0402FR-07169KL
designator R?, comment 169k
RC0402FR-07169KL 0402 169 kOhm ±1% 1/16W 0402 SMD -55C...+155C; Manufacturer: Yageo; BOM2: 169 кОм ±1%, 1/16 Вт, SMD 0402, RC0402FR-07169KL; ValueBOM: RC0402FR-07169KL   Yageo                            (169 кОм ±1%, 1/16 Вт, SMD 0402, RC0402FR-07169KL); Value: 169k; Part Number: RC0402FR-07169KL; Package: 0402; BOM1: 169 kOhm ±1% 1/16W 0402 SMD
footprint RESC_0402_1005L (Chip Resistor, Body 1.1x0.5mm, IPC High Density)
footprint RESC_0402_1005M (Chip Resistor, Body 1.1x0.5mm, IPC Low Density)
footprint RESC_0402_1005N (Chip Resistor, Body 1.1x0.5mm, IPC Medium Density)
pins: 1, 2

## RC0402FR-07169RL
designator R?, comment 169R
RC0402FR-07169RL 0402 169 Ohm ±1% 1/16W 0402 SMD -55C...+155C; Manufacturer: Yageo; BOM2: 169 Ом ±1%, 1/16 Вт, SMD 0402, RC0402FR-07169RL; ValueBOM: RC0402FR-07169RL   Yageo                            (169 Ом ±1%, 1/16 Вт, SMD 0402, RC0402FR-07169RL); Value: 169R; Part Number: RC0402FR-07169RL; Package: 0402; BOM1: 169 Ohm ±1% 1/16W 0402 SMD
footprint RESC_0402_1005L (Chip Resistor, Body 1.1x0.5mm, IPC High Density)
footprint RESC_0402_1005M (Chip Resistor, Body 1.1x0.5mm, IPC Low Density)
footprint RESC_0402_1005N (Chip Resistor, Body 1.1x0.5mm, IPC Medium Density)
pins: 1, 2